# EAGLE library part HDR100-6 (library SM1000)
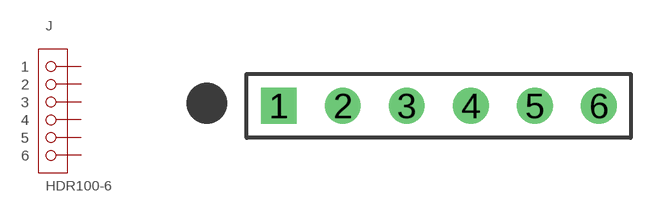
[diagram p2: symbol with the pads of HDR100-6; footprint HDR100-6]

Designator prefix J

## HDR100-6  [HDR100-6]
1  1
2  2
3  3
4  4
5  5
6  6

## Footprint HDR100-6 (pad centres in mm)
drill 0.8 pad 1.422 square: 1 -6.35,0
drill 0.8 pad 1.422: 2 -3.81,0; 3 -1.27,0; 4 1.27,0; 5 3.81,0; 6 6.35,0